# EAGLE library part D9MG (library CasaLibrary)
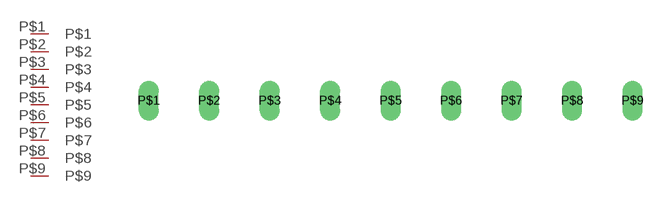
[diagram p29: symbol with the pads of D9MG; footprint D9MG]

Designator prefix -

## D9MG  [D9MG]
P$1  P$1
P$2  P$2
P$3  P$3
P$4  P$4
P$5  P$5
P$6  P$6
P$7  P$7
P$8  P$8
P$9  P$9

## Footprint D9MG (pad centres in mm)
drill 1.1 pad 1.676 long: P$1 0,0; P$2 5.08,0; P$3 10.16,0; P$4 15.24,0; P$5 20.32,0; P$6 25.4,0; P$7 30.48,0; P$8 35.56,0; P$9 40.64,0